# EAGLE library part LTC6904 (library open-ephys)
I2C Clock LTC6904
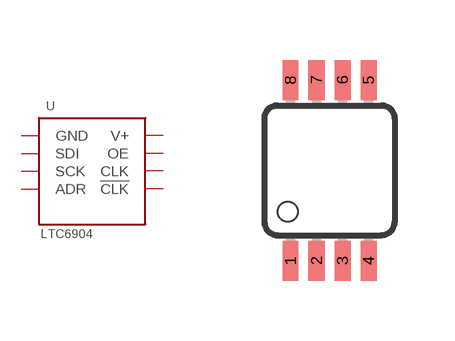
[diagram p15: symbol with the pads of MSOP08; footprint MSOP08]

Designator prefix U

## LTC6904LTC6904  [MSOP08]
1  GND  pwr
2  SDI  in
3  SCK  in
4  ADR
5  !CLK  out
6  CLK  out
7  OE
8  V+  pwr

## Footprint MSOP08 (pad centres in mm)
8-Lead micro SO (RM-8) This footprint if untested! Used with the LTC6904. Source: http://www.analog.com/UploadedFiles/Data_Sheets/703465986AD8611_2_0.pdf
smd 0.4 x 1: 1 -0.976,-2.263; 2 -0.326,-2.263; 3 0.324,-2.263; 4 0.974,-2.263; 5 0.974,2.262; 6 0.324,2.262; 7 -0.326,2.262; 8 -0.976,2.262